# Altium schematic symbol library LEDs.SchLib: 7 symbols
Pins are listed as number, name and electrical type; pins without a type are passive.

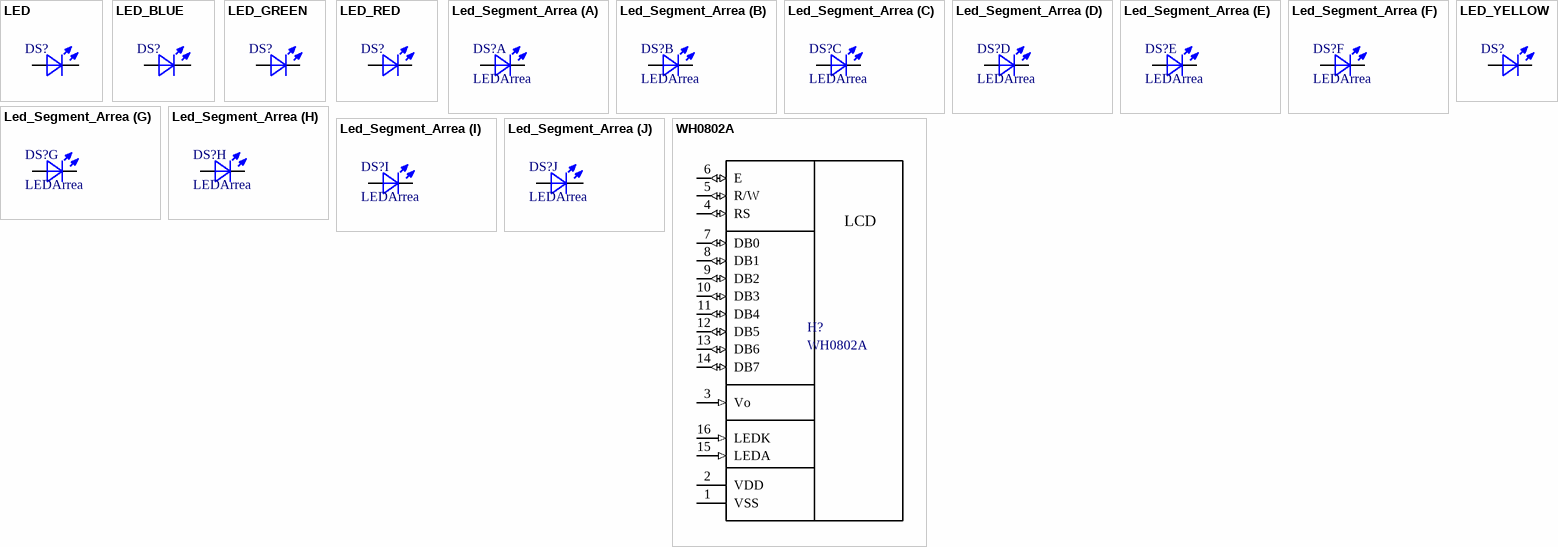
[diagram p0: symbols LED to WH0802A]

## LED
designator DS?
LED_SMD
footprint LED_DIP
footprint LED_SMD_2520
footprint LED_DIP _m
footprint LED_SMD_0805
footprint LED_SMD_1206
footprint LED_SMD_2520_hole
pins: 1 A, 2 C

## LED_BLUE
designator DS?
LED
footprint LED_BLUE
pins: 1 A, 2 C

## LED_GREEN
designator DS?
LED
footprint LED_GREEN
pins: 1 A, 2 C

## LED_RED
designator DS?
LED
footprint LED_RED
pins: 1 A, 2 C

## Led_Segment_Arrea
designator DS?, comment LEDArrea
LED_Arrea
footprint LED_ARREA
part A pins: 1 A, 2 C
part B pins: 1 A, 2 C
part C pins: 1 A, 2 C
part D pins: 1 A, 2 C
part E pins: 1 A, 2 C
part F pins: 1 A, 2 C
part G pins: 1 A, 2 C
part H pins: 1 A, 2 C
part I pins: 1 A, 2 C
part J pins: 1 A, 2 C

## LED_YELLOW
designator DS?
LED
footprint LED_YELLOW
pins: 1 A, 2 C

## WH0802A
designator H?
LSD 2x8
footprint WINSTAR
pins: 1 VSS (power), 2 VDD (power), 3 Vo (in), 4 RS (io), 5 R/W (io), 6 E (io), 7 DB0 (io), 8 DB1 (io), 9 DB2 (io), 10 DB3 (io), 11 DB4 (io), 12 DB5 (io), 13 DB6 (io), 14 DB7 (io), 15 LEDA (in), 16 LEDK (in)
text: LCD